# Altium integrated library Measurement Specialties.IntLib: 1 symbol
Pins are listed as number, name and electrical type; pins without a type are passive.

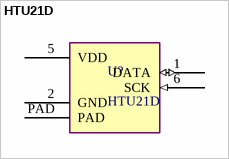
[diagram p0: symbol HTU21D]

## HTU21D
designator U?
Relative humidity sensors provide digital outputs for humidity and temperature in I2C formats; Supplier 1: Mouser; Supplier Part Number 1: 824-HTU21D; ComponentLink1Description: Datasheet; ComponentLink1URL: http://www.mouser.com/ds/2/418/NG_DS_HPC199_6_A1-1130111.pdf
footprint SON100P300X300X113-6T150X240 (IPC7351C)
pins: 1 DATA (io) "Data bit-stream", 2 GND (power) "Ground", 3 NC3 hidden "Must be left unconnected", 4 NC4 hidden "Must be left unconnected", 5 VDD (power) "Supply Voltage", 6 SCK (in) "Selector for RH or Temp", PAD "Ground or unconnected"